# Altium schematic symbol library BFP750.SchLib: 1 symbol
Pins are listed as number, name and electrical type; pins without a type are passive.

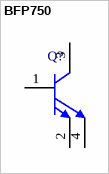
[diagram p0: symbol BFP750]

## BFP750
designator Q?
High Linearity Low Noise SiGe:C NPN RF Transistor, 4 V VCEO, 90 mA IC, 22.5 dB Gmax, SOT343, Green; Manufacturer: Infineon; PartNumber: BFP750; Gmax (typ): 22.5 dB; Green: yes; Group: SiGe; IC (max): 90 mA; NFmin (typ): 0.9 dB; Ptot (max): 360.0 mW; VCEO (max): 4 V; DatasheetVersion: Rev. 1.0; PackageReference: SOT343; PackageDescription: 4-Pin Small Outline Transistor Package, 1.25 x 2 mm Body; Halogen-free: yes; Mounting Technology: Surface Mount; ComponentLink1Description: Manufacturer URL; ComponentLink1URL: http://www.infineon.com/; ComponentLink2Description: Datasheet; ComponentLink2URL: http://www.infineon.com/dgdl/bfp750.pdf?folderId=db3a30431f848401011fcbf2ab4c04c4&fileId=db3a30432ba3fa6f012bf6da59f12d0b&location=en.Products.RF.RF_Transistors_.High_Linearity_Si-_and_SiGe_C-Transistors_for_use_up_to_6_GHz.DATASHEET.bfp750.pdf; ComponentLink3Description: Package Specification; ComponentLink3URL: http://www.infineon.com/dgdl/SOT343-Package_Overview.pdf?folderId=db3a30431936bc4b0119535155343cba&fileId=db3a30431936bc4b0119535a9f393cd3
footprint INF-SOT343_V (SOT343, 4-Leads, Body 2x1.25 mm)
pins: 1 B, 2 E, 3 C, 4 E